# EAGLE library part NXP_PCF8591P (library Nwazet.Go)
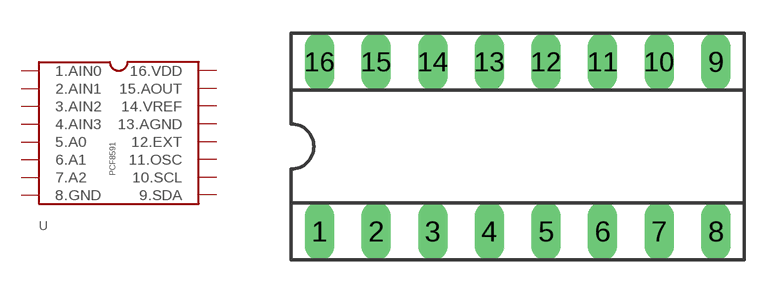
[diagram p29: symbol with the pads of NXP_PCF8591_DIP; footprint NXP_PCF8591_DIP]

Designator prefix -

## NXP_PCF8591P  [NXP_PCF8591_DIP]
1  1.AIN0  in
2  2.AIN1  in
3  3.AIN2  in
4  4.AIN3  in
5  5.A0  in
6  6.A1  in
7  7.A2  in
8  8.GND  pas
9  9.SDA
10  10.SCL
11  11.OSC
12  12.EXT  in
13  13.AGND  pas
14  14.VREF  in
15  15.AOUT  out
16  16.VDD  pwr

## Footprint NXP_PCF8591_DIP (pad centres in mm)
drill 0.813 long: 1 -8.89,-3.81; 2 -6.35,-3.81; 3 -3.81,-3.81; 4 -1.27,-3.81; 5 1.27,-3.81; 6 3.81,-3.81; 7 6.35,-3.81; 8 8.89,-3.81; 9 8.89,3.81; 10 6.35,3.81; 11 3.81,3.81; 12 1.27,3.81; 13 -1.27,3.81; 14 -3.81,3.81; 15 -6.35,3.81; 16 -8.89,3.81